# Altium schematic symbol library U_TS3USB221.SchLib: 1 symbol
Pins are listed as number, name and electrical type; pins without a type are passive.

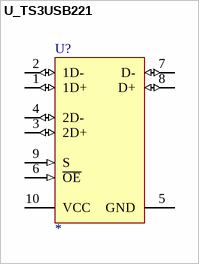
[diagram p0: symbol U_TS3USB221]

## U_TS3USB221
designator U?
pins: 1 1D+ (io) "Bus B", 2 1D- (io) "Bus B", 3 2D+ (io) "Bus B", 4 2D- (io) "Bus B", 5 GND (power), 6 ~{OE} (in) "Bus-switch enable", 7 D- (io) "Bus A", 8 D+ (io) "Bus A", 9 S (in) "Select input", 10 VCC (power) "Power supply"